# Altium footprint library 12-Filters FB.PcbLib: 64 footprints (part 4 of 4)
Each footprint in its own frame and in the unit in brackets; x right, y up, seen from the top. Pads: shape width x height; smd on the part's side, far side on the other; paste and mask are expansions set on the pad; w line width, h text height; cw(c..) or ccw(c..) is an arc to the next point about the centre after c.
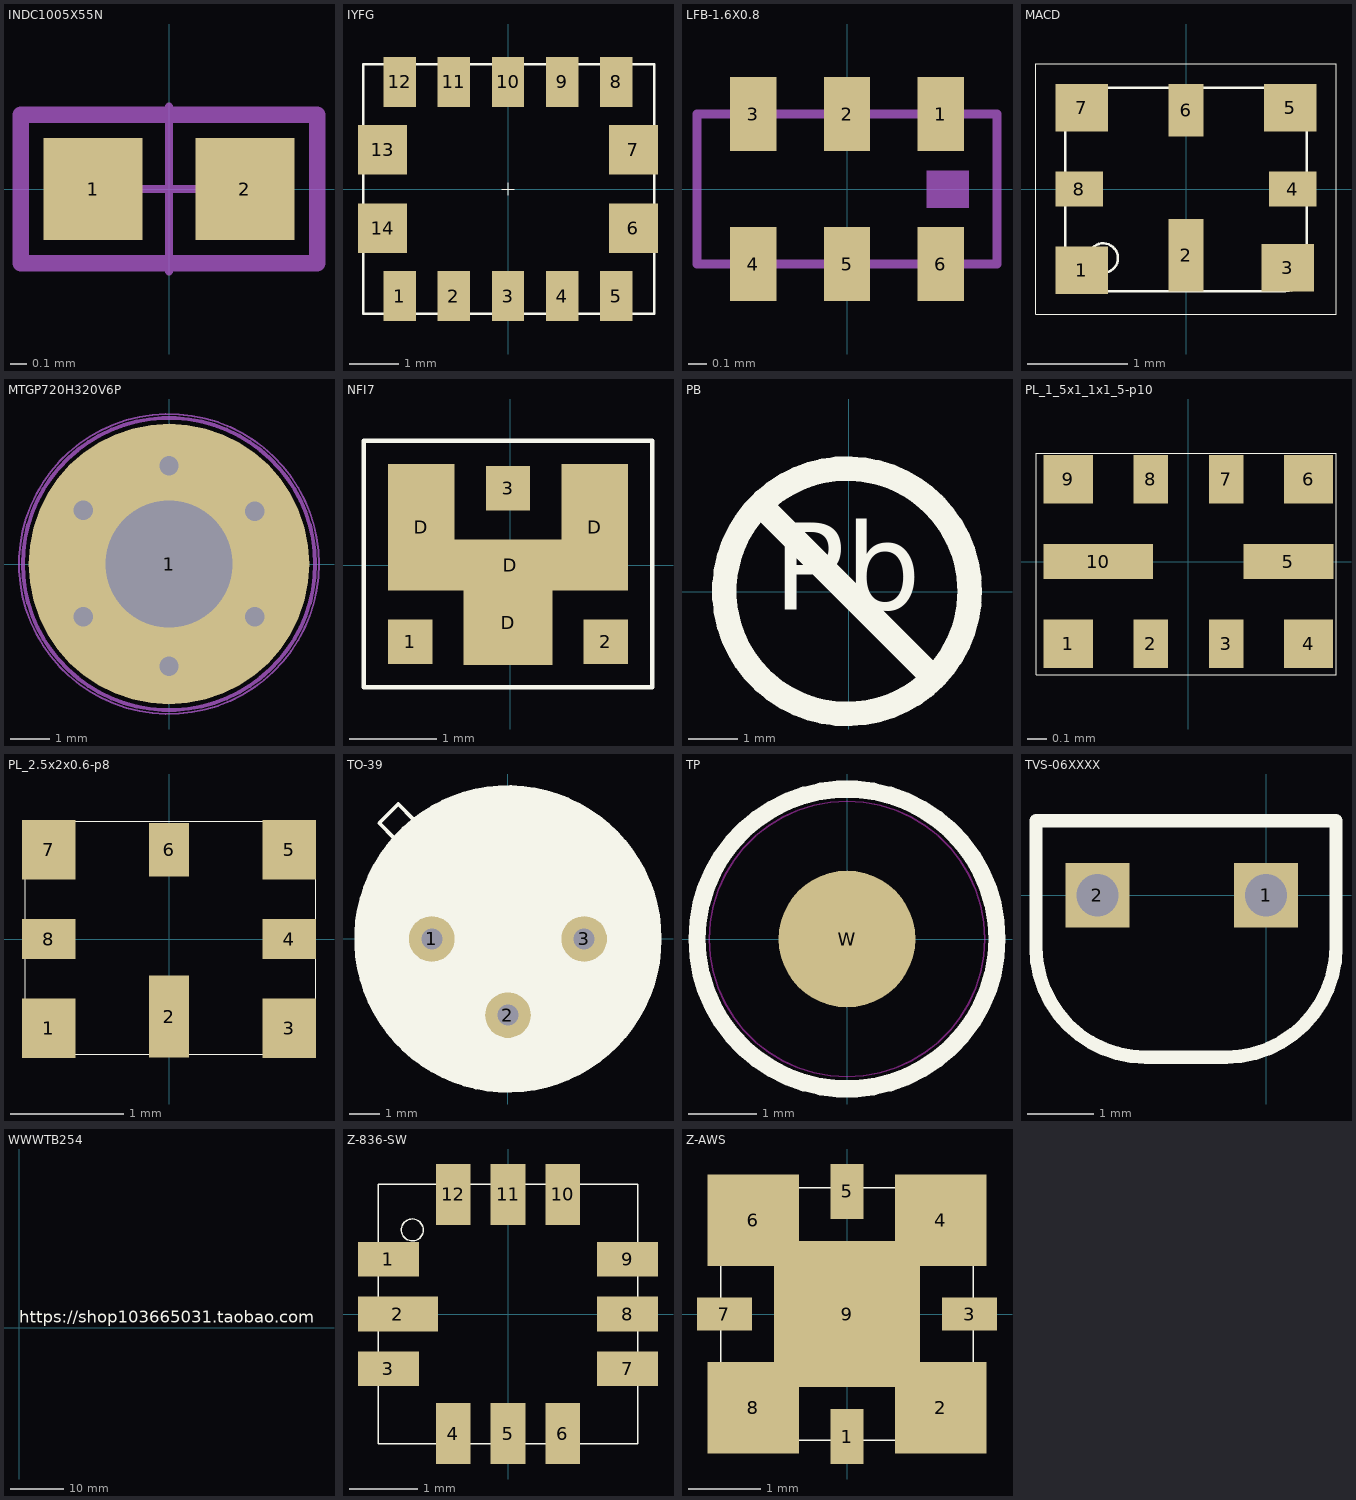
[diagram p3: the footprints below, top view; thin cyan lines are the x and y axes]

## INDC1005X55N [mm] "Chip Inductor, 2-Leads, EIA 0402, Metric 1005, Body 1x0.5mm, 0402IPC Medium Density"
height 0.55
pads (2):
  rect 0.6x0.62 smd: 1(-0.46,0) 2(0.46,0)
Mechanical 14:
  lines w0.1: -0.9,-0.45 -0.9,0.45 0.9,0.45 0.9,-0.45 -0.9,-0.45
Mechanical 15:
  lines w0.05: -0.5,0 0.5,0 ; 0,-0.5 0,0.5 ; -0.91,-0.46 -0.91,0.46 0.91,0.46 0.91,-0.46 -0.91,-0.46
3D body "INDC1005X55N.stp": height 0.55, standoff 0, extent -0.525,-0.275 0.525,0.275

## IYFG [mm]
height 0.75
pads (14):
  rect 0.66x1.016 smd: 1(-2.2,-2.18) 2(-1.1,-2.18) 3(0,-2.18) 4(1.1,-2.18) 5(2.2,-2.18) 8(2.2,2.18) 9(1.1,2.18) 10(0,2.18) 11(-1.1,2.18) 12(-2.2,2.18)
  rect 1x1 smd: 6(2.553,-0.8) 7(2.553,0.8) 13(-2.553,0.8) 14(-2.553,-0.8)
Top Overlay:
  lines w0.025: -0.127,0 0.127,0 ; 0,-0.127 0,0.127
  lines w0.051: -2.946,-2.54 -2.946,2.54 2.972,2.54 2.972,-2.54 -2.946,-2.54
3D body "iyfg.stp": height 1.41, standoff 0, extent -2.9,-2.489 2.9,2.511

## LFB-1.6X0.8 [mm]
height 0.75
pads (6):
  rect 0.25x0.4 smd: 1(0.508,0.406) 3(-0.508,0.406) 4(-0.508,-0.406) 5(0,-0.406) 6(0.508,-0.406)
  rect 0.25x0.4 smd mask+0.102: 2(0,0.406)
Mechanical 15:
  rectangle: 0.432,-0.102 0.66,0.102
  lines w0.05: -0.813,-0.406 -0.813,0.406 0.813,0.406 0.813,-0.406 -0.813,-0.406
3D body "0_25-0_425.stp": height 0.01, standoff 0, extent 0.383,-0.619 0.633,-0.194
3D body "0_25-0_425.stp": height 0.01, standoff 0, extent -0.125,-0.619 0.125,-0.194
3D body "0_25-0_425.stp": height 0.01, standoff 0, extent -0.633,-0.619 -0.383,-0.194
3D body "0_25-0_425.stp": height 0.01, standoff 0, extent -0.633,0.194 -0.383,0.619
3D body "0_25-0_425.stp": height 0.01, standoff 0, extent -0.125,0.194 0.125,0.619
3D body "0_25-0_425.stp": height 0.01, standoff 0, extent 0.383,0.194 0.633,0.619
3D body "cp1608.stp": height 0.6, standoff -0.01, extent -0.8,-0.42 0.8,0.42

## MACD [mm]
height 0.75
pads (8):
  rect 0.525x0.475 smd mask+0.051: 1(-1.041,-0.813) 3(1.016,-0.787) 5(1.041,0.813) 7(-1.041,0.813)
  rect 0.35x0.725 smd mask+0.051: 2(0,-0.66)
  rect 0.475x0.35 smd mask+0.051: 4(1.067,0) 8(-1.067,0)
  rect 0.35x0.525 smd mask+0.051: 6(0,0.787)
Top Overlay:
  circle w0.025: c-0.828,-0.691 r0.147
  lines w0.005: -1.5,-1.25 -1.5,1.25 1.5,1.25 1.5,-1.25 -1.5,-1.25
  lines w0.025: -1.206,0.793 cw(c-0.987,0.794) -0.988,1.013 ; -1.206,0.8 -1.206,-0.803 ccw(c-0.987,-0.802) -0.986,-1.021 ; -0.993,1.013 0.991,1.013 ; -0.988,-1.021 0.988,-1.021 ; 0.989,1.013 cw(c0.99,0.794) 1.209,0.795 1.209,-0.8 ; 0.991,-1.021 ccw(c0.99,-0.802) 1.209,-0.801

## MTGP720H320V6P [mm]
pads (1):
  round 7.2 hole 3.25: 1(0,0)
via -2.2,-1.35 diameter 1 hole 0.5
via -2.2,1.375 diameter 1 hole 0.5
via 0,2.525 diameter 1 hole 0.5
via 2.2,1.35 diameter 1 hole 0.5
via 0,-2.625 diameter 1 hole 0.5
via 2.2,-1.35 diameter 1 hole 0.5
Mechanical 8:
  circle w0.1: c0,0 r2.6
  circle w0.1: c0,0 r3.75
  lines w0.1: -2.657,1.625 -2.224,1.375 ; -2.632,-1.6 -2.199,-1.35 ; -2.474,0.942 -2.224,1.375 ; -2.449,-0.917 -2.199,-1.35 ; -1.974,1.808 -2.224,1.375 ; -1.949,-1.783 -2.199,-1.35 ; -1.791,1.125 -2.224,1.375 ; -1.766,-1.1 -2.199,-1.35 ; -0.5,-2.625 0,-2.625 ; -0.5,0 0,0 ; -0.5,2.525 0,2.525 ; 0,-3.125 0,-2.625 ; 0,-2.125 0,-2.625 ; 0,-0.5 0,0 ; 0,0.5 0,0 ; 0,2.025 0,2.525 ; 0,3.025 0,2.525 ; 0.5,-2.625 0,-2.625 ; 0.5,0 0,0 ; 0.5,2.525 0,2.525 ; 1.766,-1.1 2.199,-1.35 ; 1.766,1.1 2.199,1.35 ; 1.949,-1.783 2.199,-1.35 ; 1.949,1.783 2.199,1.35 ; 2.449,-0.917 2.199,-1.35 ; 2.449,0.917 2.199,1.35 ; 2.632,-1.6 2.199,-1.35 ; 2.632,1.6 2.199,1.35
Mechanical 14:
  circle w0.1: c0,0 r3.75
Mechanical 15:
  circle w0.05: c0,0 r3.85
3D body "mtgp720h320v6p.stp": height 0.1, standoff -1.75, extent -3.627,-3.627 3.628,3.628

## NFI7 [mil]
height 29.53
pads (7):
  rect 20x20 smd: 1(-45,-34.5) 2(43,-34.5) 3(-1,34.5)
  rect 30x57 smd: D(-40,17) D(38,17)
  rect 40x38 smd: D(-1,-26)
  rect 57x23 smd: D(0,0)
Top Overlay:
  lines w2: -66,-55 -66,56 64,56 64,16 64,-55 -66,-55
3D body "fl_3x2_5x1_1-p9.stp": height 43.31, standoff -0.12, extent -60,-49 58.11,49.43

## PB [mm]
Top Overlay:
  circle w0.5: c-0.031,0.013 r2.5
  lines w0.5: -1.737,1.719 1.675,-1.693
  text "Pb" at -1.536,-0.948 h3.05
3D body "pb.stp": height 0.02, standoff 0, extent -2.725,-2.725 2.725,2.725

## PCBComponent_1 - duplicate [mm]

## PL_1_5x1_1x1_5-p10 [mm]
height 0.75
pads (10):
  rect 0.255x0.25 smd: 1(-0.62,-0.425) 4(0.62,-0.425) 6(0.62,0.425) 9(-0.62,0.425)
  rect 0.18x0.25 smd: 2(-0.195,-0.425) 3(0.195,-0.425) 7(0.195,0.425) 8(-0.195,0.425)
  rect 0.465x0.18 smd: 5(0.516,0)
  rect 0.565x0.18 smd: 10(-0.465,0)
Top Overlay:
  lines w0.005: -0.787,-0.584 0.762,-0.584 0.762,0.559 -0.787,0.559 -0.787,-0.584
3D body "fl_1_5x1_1x0_5-p10.stp": height 0.5, standoff 0, extent -0.738,-0.55 0.762,0.55

## PL_2.5x2x0.6-p8 [mm]
height 0.75
pads (8):
  rect 0.475x0.525 smd: 1(-1.062,-0.787) 3(1.062,-0.787) 5(1.062,0.787) 7(-1.062,0.787)
  rect 0.35x0.725 smd: 2(0,-0.686)
  rect 0.475x0.35 smd: 4(1.062,0) 8(-1.062,0)
  rect 0.35x0.475 smd: 6(0,0.787)
Top Overlay:
  lines w0.005: -1.27,-1.016 -1.27,1.041 1.295,1.041 1.295,-1.016 -1.27,-1.016
3D body "fl_2_5x2x0_6-p8.stp": height 0.6, standoff 0, extent -1.245,-0.991 1.255,1.009

## TO-39 [mil]
height 29.53
pads (3):
  round 60 hole 27.56: 1(-100,0) 2(0,-100) 3(100,0)
Top Overlay:
  circle w10: c0,0 r196.85
  region: 0,-197 -56,-191 -111,-163 -151,-125 -179,-80 -195,-21 -194,34 -174,93 -134,144 -86,176 -30,195 21,196 74,183 133,147 172,95 193,49 197,-1 178,-84 149,-131 101,-170 51,-189
  lines w5: -149,132 -169,152 -144,177 -124,157
3D body "to-39.stp": height 138.58, standoff -118.11, extent -196.82,-196.83 196.85,196.85

## TP [mm]
height 11.7
pads (1):
  round 2 smd mask+1: W(0,0)
Top Overlay:
  circle w0.254: c0,0 r2.195
Keep-Out Layer:
  circle w0.025: c0,0 r2.017
3D body "1_016-1_016-3_tp.stp": height 0.02, standoff 0, extent -1.5,-1.5 1.5,1.5

## TVS-06XXXX [mil]
height 29.53
pads (2):
  rect 38x38 hole 25: 1(0,0)
  rect 38x38 / inner round 38 / far side rect 38x38 hole 25: 2(-100,0)
Top Overlay:
  lines w8: -136.43,-31.02 ccw(c-71.49,-31.02) -71.49,-95.96 -23.75,-95.96 ccw(c-23.75,-30.77) 41.44,-30.77 41.44,44.1 -117.77,44.1 -136.43,44.1 -136.43,-31.02
3D body "tvs-06xxxx.stp": height 254.72, standoff -112.6, extent -137.85,-91.51 38.04,43.53

## WWWTB254 [mm]
height 11.7
Top Overlay:
  text "https://shop103665031.taobao.com" at 0,0.254 h3.92
3D body "wwwbt254.stp": height 0.02, standoff 0, extent 0,0 46.872,2.887

## Z-836-SW [mil]
height 29.53
pads (12):
  rect 35x20 smd mask+2: 1(-68.9,31.5) 3(-68.9,-31.5) 7(68.9,-31.5) 8(68.9,0) 9(68.9,31.5)
  rect 46x20 smd mask+2: 2(-63.39,0)
  rect 20x35 smd mask+2: 4(-31.5,-68.9) 5(0,-68.9) 6(31.5,-68.9) 10(31.5,68.9) 11(0,68.9) 12(-31.5,68.9)
Top Overlay:
  circle w0.79: c-55.12,48.43 r6.3
  lines w0.79: -74.8,-74.8 -74.8,74.8 74.8,74.8 74.8,-74.8 -74.8,-74.8

## Z-AWS [mm]
height 0.75
pads (9):
  rect 0.457x0.762 smd mask+0.051: 1(0,-1.7) 5(0,1.7)
  rect 1.27x1.27 smd mask+0.051: 2(1.3,-1.3) 4(1.3,1.3) 6(-1.3,1.3) 8(-1.3,-1.3)
  rect 0.762x0.457 smd mask+0.051: 3(1.7,0) 7(-1.7,0)
  rect 2.032x2.032 smd mask+0.051: 9(0,0)
Top Overlay:
  lines w0.02: -1.75,-1.75 1.75,-1.75 1.75,1.75 -1.75,1.75 -1.75,-1.75